# EAGLE library part SN754410 (library decoderP3 v2)
SN754410 quadruple half-H bridge driver
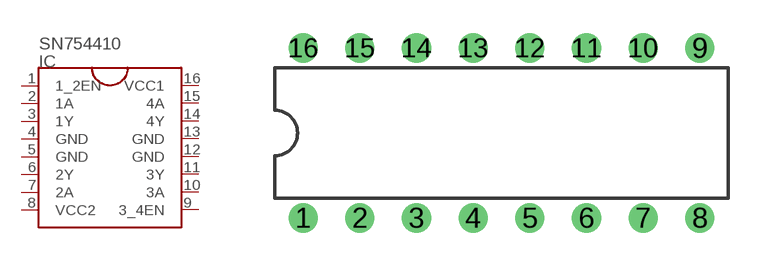
[diagram p2: symbol with the pads of DIL16; footprint DIL16]

Designator prefix IC

## SN754410PDIP  [DIL16]
1  1_2EN
2  1A
3  1Y
4  GND
5  GND
6  2Y
7  2A
8  VCC2
9  3_4EN
10  3A
11  3Y
12  GND
13  GND
14  4Y
15  4A
16  VCC1

## Footprint DIL16 (pad centres in mm)
Dual In Line Package 16p
drill 0.8: 1 -8.89,-3.81; 2 -6.35,-3.81; 3 -3.81,-3.81; 4 -1.27,-3.81; 5 1.27,-3.81; 6 3.81,-3.81; 7 6.35,-3.81; 8 8.89,-3.81; 9 8.89,3.81; 10 6.35,3.81; 11 3.81,3.81; 12 1.27,3.81; 13 -1.27,3.81; 14 -3.81,3.81; 15 -6.35,3.81; 16 -8.89,3.81